# Altium footprint library 796136-1.PcbLib: 1 footprints
Each footprint in its own frame and in the unit in brackets; x right, y up, seen from the top. Pads: shape width x height; smd on the part's side, far side on the other; paste and mask are expansions set on the pad; w line width, h text height; cw(c..) or ccw(c..) is an arc to the next point about the centre after c.
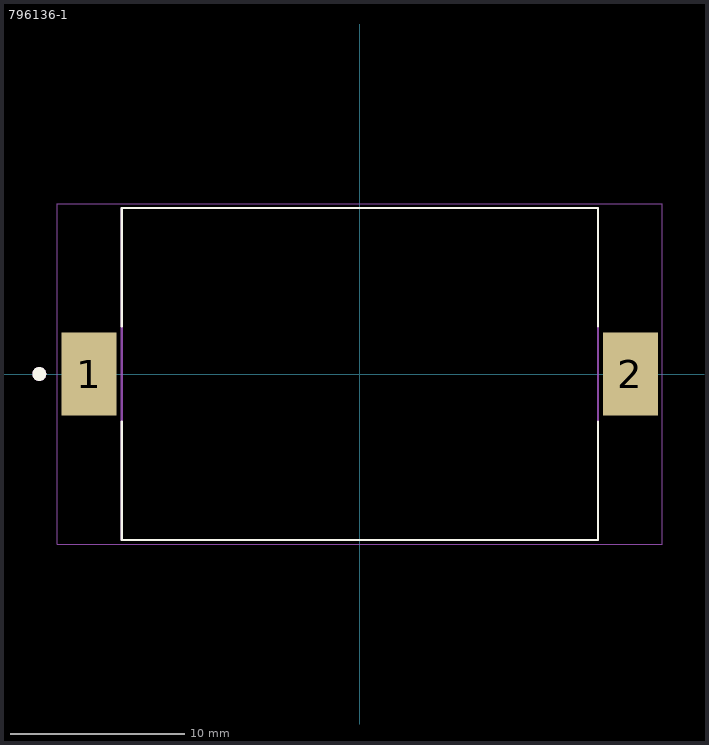
[diagram p0: the footprint, top view; thin cyan lines are the x and y axes]

## 796136-1 [mm]
pads (2):
  rect 3.15x4.78 smd: 1(-15.52,0) 2(15.52,0)
Top Overlay:
  circle w0.4: c-18.375,0 r0.2
  lines w0.127: -13.65,-2.72 -13.65,-9.525 13.65,-9.525 13.65,-2.72 ; -13.65,2.72 -13.65,9.525 13.65,9.525 13.65,2.72
Mechanical 13:
  circle w0.4: c-18.375,0 r0.2
  lines w0.127: -13.65,-9.525 -13.65,9.525 13.65,9.525 13.65,-9.525 -13.65,-9.525
  text "+" at -13.375,-0.6 h1.42
  text "-" at 12.475,-0.6 h1.42
Mechanical 15:
  lines w0.05: -17.345,-9.775 -17.345,9.775 17.345,9.775 17.345,-9.775 -17.345,-9.775
3D body "796136-1.stp": height 6.53, standoff 0, extent -16.293,-9.525 16.027,9.525